# Altium footprint library 2019-08-31_06-05-10.PcbLib: 3 footprints
Each footprint in its own frame and in the unit in brackets; x right, y up, seen from the top. Pads: shape width x height; smd on the part's side, far side on the other; paste and mask are expansions set on the pad; w line width, h text height; cw(c..) or ccw(c..) is an arc to the next point about the centre after c.
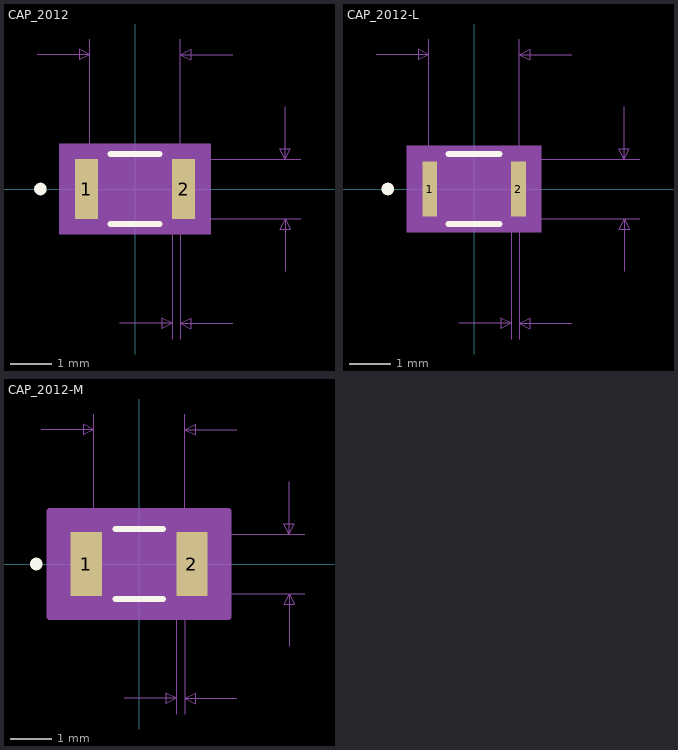
[diagram p0: the footprints below, top view; thin cyan lines are the x and y axes]

## CAP_2012 [mil]
pads (2):
  rect 22x57 smd paste+0 mask+0: 1(-46.5,0) 2(46.5,0)
Top Overlay:
  circle w6: c-90.5,0 r3
  lines w6: -23.39,-33.5 23.39,-33.5 ; -23.39,33.5 23.39,33.5
Mechanical 5:
  region: 72.5,-43.5 -72.5,-43.5 -72.5,43.5 72.5,43.5
Mechanical 7:
  lines w1: -93.5,128.5 -43.5,128.5 ; -43.5,0 -43.5,143.5 ; -14.5,-128.5 35.5,-128.5 ; 0,-28.5 158.5,-28.5 ; 0,28.5 158.5,28.5 ; 35.5,-143.5 35.5,0 ; 43.5,-143.5 43.5,0 43.5,143.5 ; 93.5,-128.5 43.5,-128.5 ; 93.5,128.5 43.5,128.5 ; 143.5,-78.5 143.5,-28.5 ; 143.5,78.5 143.5,28.5 ; -43.5,128.5 -53.5,133.5 -53.5,123.5 -43.5,128.5 ; 35.5,-128.5 25.5,-123.5 25.5,-133.5 35.5,-128.5 ; 43.5,-128.5 53.5,-123.5 53.5,-133.5 43.5,-128.5 ; 43.5,128.5 53.5,133.5 53.5,123.5 43.5,128.5 ; 143.5,-28.5 138.5,-38.5 148.5,-38.5 143.5,-28.5 ; 143.5,28.5 138.5,38.5 148.5,38.5 143.5,28.5
  text "Default Padstyle: RX22Y57D0T" at -350,-298.5 h50
  text "Alternate 1 Padstyle: OX60Y90D30P" at -412.5,-398.5 h50
  text "Alternate 2 Padstyle: OX90Y60D30P" at -412.5,-498.5 h50
  text "0.057in/1.448mm" at 163.5,-12.5 h25
  text "0.087in/2.21mm" at -87.5,148.5 h25
  text "0.008in/0.203mm" at -54.25,-173.5 h25
Mechanical 13:
  circle w0: c-41.5,0 r3
  lines w1: -43.5,-28.5 -43.5,28.5 ; -43.5,-28.5 -35.5,-28.5 -35.5,28.5 -43.5,28.5 ; -43.5,-28.5 43.5,-28.5 ; -43.5,-28.5 -43.5,28.5 ; -43.5,28.5 43.5,28.5 ; 43.5,-28.5 35.5,-28.5 35.5,28.5 43.5,28.5 ; 43.5,-28.5 43.5,28.5 ; 43.5,-28.5 43.5,28.5
Mechanical 15:
  region: 67.5,-38.5 -67.5,-38.5 -67.5,38.5 67.5,38.5
  lines w6: -67.5,-38.5 -67.5,38.5 67.5,38.5 67.5,-38.5 -67.5,-38.5
3D body: height 10, standoff 0, extent 0,0 10,10

## CAP_2012-L [mil]
pads (2):
  rect 14x53 smd paste+0 mask+0: 1(-42.5,0) 2(42.5,0)
Top Overlay:
  circle w6: c-82.5,0 r3
  lines w6: -24.43,-33.5 24.43,-33.5 ; -24.43,33.5 24.43,33.5
Mechanical 5:
  region: 64.5,-41.5 -64.5,-41.5 -64.5,41.5 64.5,41.5
Mechanical 7:
  lines w1: -93.5,128.5 -43.5,128.5 ; -43.5,0 -43.5,143.5 ; -14.5,-128.5 35.5,-128.5 ; 0,-28.5 158.5,-28.5 ; 0,28.5 158.5,28.5 ; 35.5,-143.5 35.5,0 ; 43.5,-143.5 43.5,0 43.5,143.5 ; 93.5,-128.5 43.5,-128.5 ; 93.5,128.5 43.5,128.5 ; 143.5,-78.5 143.5,-28.5 ; 143.5,78.5 143.5,28.5 ; -43.5,128.5 -53.5,133.5 -53.5,123.5 -43.5,128.5 ; 35.5,-128.5 25.5,-123.5 25.5,-133.5 35.5,-128.5 ; 43.5,-128.5 53.5,-123.5 53.5,-133.5 43.5,-128.5 ; 43.5,128.5 53.5,133.5 53.5,123.5 43.5,128.5 ; 143.5,-28.5 138.5,-38.5 148.5,-38.5 143.5,-28.5 ; 143.5,28.5 138.5,38.5 148.5,38.5 143.5,28.5
  text "Default Padstyle: RX14Y53D0T" at -350,-296.5 h50
  text "Alternate 1 Padstyle: OX60Y90D30P" at -412.5,-396.5 h50
  text "Alternate 2 Padstyle: OX90Y60D30P" at -412.5,-496.5 h50
  text "0.057in/1.448mm" at 163.5,-12.5 h25
  text "0.087in/2.21mm" at -87.5,148.5 h25
  text "0.008in/0.203mm" at -54.25,-173.5 h25
Mechanical 13:
  circle w0: c-37.5,0 r3
  lines w1: -43.5,-28.5 -43.5,28.5 ; -43.5,-28.5 -35.5,-28.5 -35.5,28.5 -43.5,28.5 ; -43.5,-28.5 43.5,-28.5 ; -43.5,-28.5 -43.5,28.5 ; -43.5,28.5 43.5,28.5 ; 43.5,-28.5 35.5,-28.5 35.5,28.5 43.5,28.5 ; 43.5,-28.5 43.5,28.5 ; 43.5,-28.5 43.5,28.5
Mechanical 15:
  region: 53.5,-30.5 -53.5,-30.5 -53.5,30.5 53.5,30.5
  lines w6: -53.5,-30.5 -53.5,30.5 53.5,30.5 53.5,-30.5 -53.5,-30.5
3D body: height 10, standoff 0, extent 0,0 10,10

## CAP_2012-M [mil]
pads (2):
  rect 30x61 smd paste+0 mask+0: 1(-50.5,0) 2(50.5,0)
Top Overlay:
  circle w6: c-98.5,0 r3
  lines w6: -22.75,-33.5 22.75,-33.5 ; -22.75,33.5 22.75,33.5
Mechanical 5:
  region: 80.5,-45.5 -80.5,-45.5 -80.5,45.5 80.5,45.5
Mechanical 7:
  lines w1: -93.5,128.5 -43.5,128.5 ; -43.5,0 -43.5,143.5 ; -14.5,-128.5 35.5,-128.5 ; 0,-28.5 158.5,-28.5 ; 0,28.5 158.5,28.5 ; 35.5,-143.5 35.5,0 ; 43.5,-143.5 43.5,0 43.5,143.5 ; 93.5,-128.5 43.5,-128.5 ; 93.5,128.5 43.5,128.5 ; 143.5,-78.5 143.5,-28.5 ; 143.5,78.5 143.5,28.5 ; -43.5,128.5 -53.5,133.5 -53.5,123.5 -43.5,128.5 ; 35.5,-128.5 25.5,-123.5 25.5,-133.5 35.5,-128.5 ; 43.5,-128.5 53.5,-123.5 53.5,-133.5 43.5,-128.5 ; 43.5,128.5 53.5,133.5 53.5,123.5 43.5,128.5 ; 143.5,-28.5 138.5,-38.5 148.5,-38.5 143.5,-28.5 ; 143.5,28.5 138.5,38.5 148.5,38.5 143.5,28.5
  text "Default Padstyle: RX30Y61D0T" at -350,-300.5 h50
  text "Alternate 1 Padstyle: OX60Y90D30P" at -412.5,-400.5 h50
  text "Alternate 2 Padstyle: OX90Y60D30P" at -412.5,-500.5 h50
  text "0.057in/1.448mm" at 163.5,-12.5 h25
  text "0.087in/2.21mm" at -87.5,148.5 h25
  text "0.008in/0.203mm" at -54.25,-173.5 h25
Mechanical 13:
  circle w0: c-45.5,0 r3
  lines w1: -43.5,-28.5 -43.5,28.5 ; -43.5,-28.5 -35.5,-28.5 -35.5,28.5 -43.5,28.5 ; -43.5,-28.5 43.5,-28.5 ; -43.5,-28.5 -43.5,28.5 ; -43.5,28.5 43.5,28.5 ; 43.5,-28.5 35.5,-28.5 35.5,28.5 43.5,28.5 ; 43.5,-28.5 43.5,28.5 ; 43.5,-28.5 43.5,28.5
Mechanical 15:
  region: 85.5,-50.5 -85.5,-50.5 -85.5,50.5 85.5,50.5
  lines w6: -85.5,-50.5 -85.5,50.5 85.5,50.5 85.5,-50.5 -85.5,-50.5
3D body: height 10, standoff 0, extent 0,0 10,10